# Altium schematic symbol library MOvIT-Detect Lib.SchLib: 38 symbols
Pins are listed as number, name and electrical type; pins without a type are passive.

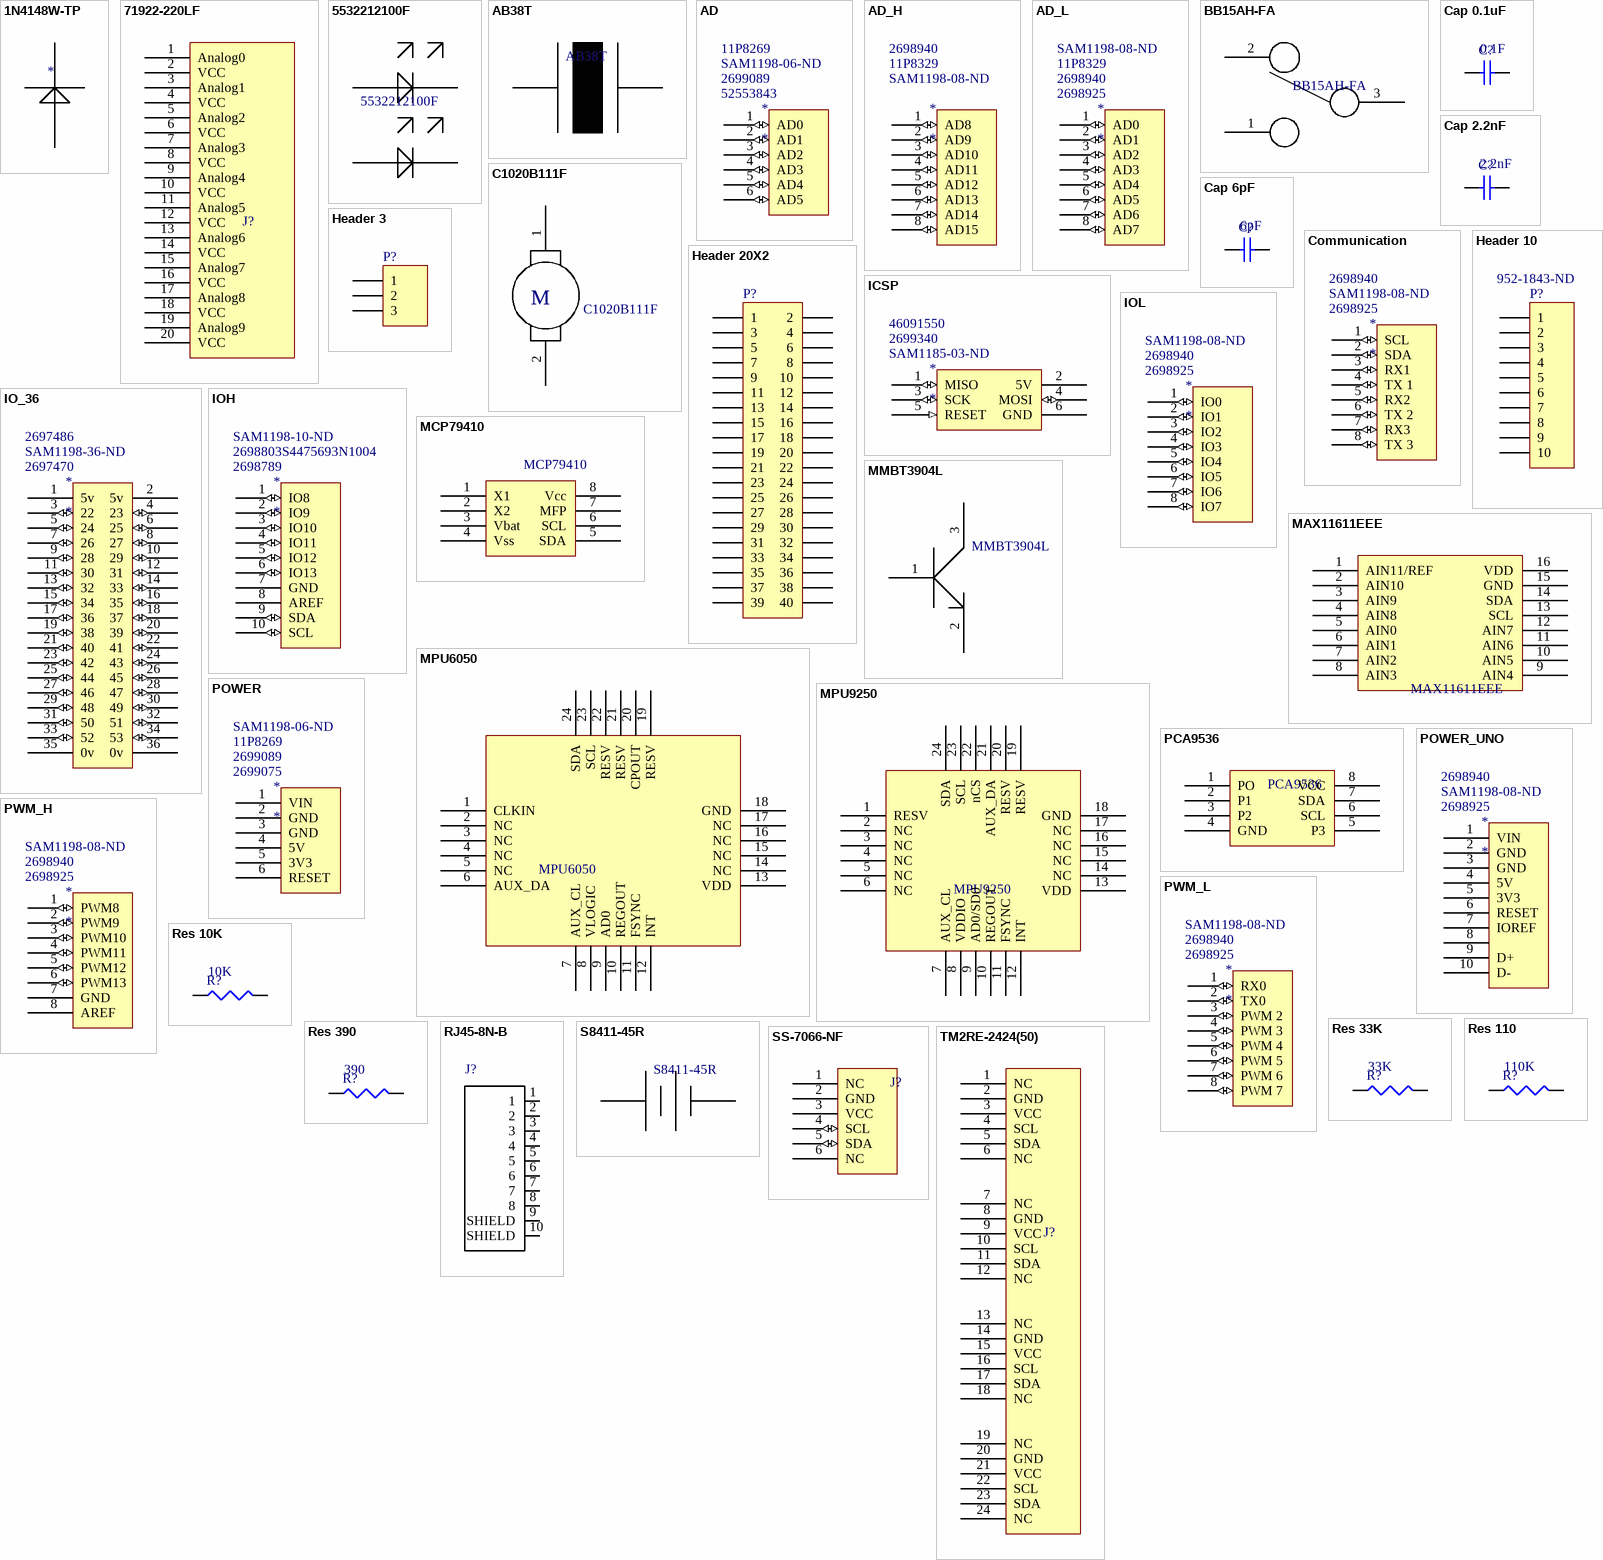
[diagram p0: symbols 1N4148W-TP to TM2RE-2424(50)]

## 1N4148W-TP
designator *  (value not drawn)
Diode; Supplier 1: Digi-Key; Supplier Part Number 1: 1N4148WTPMSCT-ND
footprint 1N4148W (Diode)
pins: 1, 2

## 71922-220LF
designator J?  (value not drawn)
Flat cable connector; Supplier 1: Digi-Key; Supplier Part Number 1: 609-3526-ND
footprint 71922-220LF (Analog connector)
pins: 1 Analog0, 2 VCC, 3 Analog1, 4 VCC, 5 Analog2, 6 VCC, 7 Analog3, 8 VCC, 9 Analog4, 10 VCC, 11 Analog5, 12 VCC, 13 Analog6, 14 VCC, 15 Analog7, 16 VCC, 17 Analog8, 18 VCC, 19 Analog9, 20 VCC

## 5532212100F
designator 5532212100F  (value not drawn)
Double LED RG; Supplier 1: Digi-Key; Supplier Part Number 1: 350-3134-ND
footprint 5532212100F (Double LED)
pins: 1, 2, 3, 4

## AB38T
designator AB38T  (value not drawn)
Oscillator 32.7680KHz; Supplier 1: Digi-Key; Supplier Part Number 1: 535-11937-1-ND
footprint ECX-31B (Crystal at 32.768Hz)
pins: 1, 2

## AD
designator *  Supplier Part Number 1: 52553843  Supplier Part Number 2: 2699089  Supplier Part Number 3: SAM1198-06-ND  Supplier Part Number 4: 11P8269
Supplier 1: Arrow; Supplier 2: Arrow; Supplier 3: Digi-Key; Supplier 4: Newark
footprint Header 6x1 8.5mm (Stackable 6 pin header)
pins: 1 AD0 (io), 2 AD1 (io), 3 AD2 (io), 4 AD3 (io), 5 AD4 (io), 6 AD5 (io)

## AD_H
designator *  Supplier Part Number 1: SAM1198-08-ND  Supplier Part Number 2: 11P8329  Supplier Part Number 3: 2698940
Supplier 1: Digi-Key; Supplier 2: Newark; Supplier 3: Arrow
footprint Header 8x1 8.5mm (Stackable 8 pin header)
pins: 1 AD8 (io), 2 AD9 (io), 3 AD10 (io), 4 AD11 (io), 5 AD12 (io), 6 AD13 (io), 7 AD14 (io), 8 AD15 (io)

## AD_L
designator *  Supplier Part Number 1: 2698925  Supplier Part Number 2: 2698940  Supplier Part Number 3: 11P8329  Supplier Part Number 4: SAM1198-08-ND
Supplier 1: Arrow; Supplier 2: Arrow; Supplier 3: Newark; Supplier 4: Digi-Key
footprint Header 8x1 8.5mm (Stackable 8 pin header)
pins: 1 AD0 (io), 2 AD1 (io), 3 AD2 (io), 4 AD3 (io), 5 AD4 (io), 6 AD5 (io), 7 AD6 (io), 8 AD7 (io)

## BB15AH-FA
designator BB15AH-FA  (value not drawn)
Switch Push button ON SPDT; Supplier 1: Digi-Key; Supplier Part Number 1: 360-3265-ND
footprint BB15AH-FA
pins: 1, 2, 3

## C1020B111F
designator C1020B111F  (value not drawn)
Small DC motor; Supplier 1: Digi-Key; Supplier Part Number 1: 1670-1005-ND
footprint C1020B111F (DC motor)
pins: 1, 2
text: M

## Cap 0.1uF
designator C?  value 0.1F  (hidden comment: Cap 0.1uF)
Capacitor 0.1uF; Published: 8-Jun-2000; LatestRevisionDate: 29-May-2009; LatestRevisionNote: IPC-7351 Footprint Added.; PackageReference: C1206; Publisher: Altium Limited; PackageDescription: Chip Capacitor; Supplier 1: Digi-Key; Supplier Part Number 1: 478-1395-1-ND
simulation model CAP (Semiconductor Capacitor)
signal-integrity model Cap Semi
footprint C0805 (Chip Capacitor, Body 2.0x1.3mm, IPC High Density)
pins: 1, 2

## Cap 2.2nF
designator C?  value 2.2nF  (hidden comment: Cap 2.2nF)
Capacitor 2.2nF; Published: 8-Jun-2000; LatestRevisionDate: 29-May-2009; LatestRevisionNote: IPC-7351 Footprint Added.; PackageReference: C1206; Publisher: Altium Limited; PackageDescription: Chip Capacitor; Supplier 1: Digi-Key; Supplier Part Number 1: 1276-1171-1-ND
simulation model CAP (Semiconductor Capacitor)
signal-integrity model Cap Semi
footprint C0805 (Chip Capacitor, Body 2.0x1.3mm, IPC High Density)
pins: 1, 2

## Cap 6pF
designator C?  value 6pF  (hidden comment: Cap 6pF)
Capacitor 6pF; Published: 8-Jun-2000; LatestRevisionDate: 29-May-2009; LatestRevisionNote: IPC-7351 Footprint Added.; PackageReference: C1206; Publisher: Altium Limited; PackageDescription: Chip Capacitor; Supplier 1: Digi-Key; Supplier Part Number 1: 1276-1767-1-ND
simulation model CAP (Semiconductor Capacitor)
signal-integrity model Cap Semi
footprint C0805 (Chip Capacitor, Body 2.0x1.3mm, IPC High Density)
pins: 1, 2

## Communication
designator *  Supplier Part Number 1: 2698925  Supplier Part Number 2: SAM1198-08-ND  Supplier Part Number 3: 2698940
Supplier 1: Arrow; Supplier 2: Digi-Key; Supplier 3: Arrow
footprint Header 8x1 8.5mm (Stackable 8 pin header)
pins: 1 SCL (io), 2 SDA (io), 3 RX1 (io), 4 TX 1 (io), 5 RX2 (io), 6 TX 2 (io), 7 RX3 (io), 8 TX 3 (io)

## Header 3
designator P?  (value not drawn)
Header, 3-Pin; LatestRevisionDate: 17-Jul-2002; LatestRevisionNote: Re-released for DXP Platform.; Publisher: Altium Limited; Supplier 1: Digi-Key; Supplier Part Number 1: WM11221-ND
footprint HDR1X3 (Connector; Header; 3 Position)
signal-integrity model Connector
pins: 1, 2, 3

## Header 10
designator P?  Supplier Part Number 1: 952-1843-ND
Header, 10-Pin; LatestRevisionDate: 17-Jul-2002; LatestRevisionNote: Re-released for DXP Platform.; Publisher: Altium Limited; Supplier 1: Digi-Key
footprint HDR1X10 (Connector; Header; 10 Position)
signal-integrity model Connector
pins: 1, 2, 3, 4, 5, 6, 7, 8, 9, 10

## Header 20X2
designator P?  (value not drawn)
Header, 20-Pin, Dual row; LatestRevisionDate: 17-Jul-2002; LatestRevisionNote: Re-released for DXP Platform.; Publisher: Altium Limited; Supplier 1: Digi-Key; Supplier Part Number 1: 609-3766-ND
footprint HDR2X20 (Connector; Header; 20x2 Position)
signal-integrity model Connector
footprint HDR2X20 (Connector; Header; 20x2 Position)
pins: 1, 2, 3, 4, 5, 6, 7, 8, 9, 10, 11, 12, 13, 14, 15, 16, 17, 18, 19, 20, 21, 22, 23, 24, 25, 26, 27, 28, 29, 30, 31, 32, 33, 34, 35, 36, 37, 38, 39, 40

## ICSP
designator *  Supplier Part Number 1: SAM1185-03-ND  Supplier Part Number 2: 2699340  Supplier Part Number 3: 46091550
Supplier 1: Digi-Key; Supplier 2: Arrow; Supplier 3: Arrow
footprint ICSP
pins: 1 MISO (io), 2 5V (power), 3 SCK (io), 4 MOSI (io), 5 RESET (in), 6 GND (power)

## IO_36
designator *  Supplier Part Number 1: 2697470  Supplier Part Number 2: SAM1198-36-ND  Supplier Part Number 3: 2697486
Supplier 1: Arrow; Supplier 2: Digi-Key; Supplier 3: Arrow
footprint HEADER 36X 8MM (Stackable 10 pin header)
pins: 1 5v (power), 2 5v (power), 3 22 (io) "Digital 22", 4 23 (io) "Digital 23", 5 24 (io) "Digital 24", 6 25 (io) "Digital 25", 7 26 (io) "Digital 26", 8 27 (io) "Digital 27", 9 28 (io) "Digital 28", 10 29 (io) "Digital 29", 11 30 (io) "Digital 30", 12 31 (io) "Digital 31", 13 32 (io) "Digital 32", 14 33 (io) "Digital 33", 15 34 (io) "Digital 34", 16 35 (io) "Digital 35", 17 36 (io) "Digital 36", 18 37 (io) "Digital 37", 19 38 (io) "Digital 38", 20 39 (io) "Digital 39", 21 40 (io) "Digital 40", 22 41 (io) "Digital 41", 23 42 (io) "Digital 42", 24 43 (io) "Digital 43", 25 44 (io) "Digital 44", 26 45 (io) "Digital 45", 27 46 (io) "Digital 46", 28 47 (io) "Digital 47", 29 48 (io) "Digital 48", 30 49 (io) "Digital 49", 31 50 (io) "Digital 50", 32 51 (io) "Digital 51", 33 52 (io) "Digital 52", 34 53 (io) "Digital 53", 35 0v (power), 36 0v (power)

## IOH
designator *  Supplier Part Number 1: 2698789  Supplier Part Number 2: 2698803S4475693N1004  Supplier Part Number 3: SAM1198-10-ND
Supplier 1: Arrow; Supplier 2: Arrow; Supplier 3: Digi-Key
footprint Header 10x1 8.5mm (Stackable 10 pin header)
pins: 1 IO8 (io), 2 IO9 (io), 3 IO10 (io), 4 IO11 (io), 5 IO12 (io), 6 IO13 (io), 7 GND (power), 8 AREF, 9 SDA (io), 10 SCL (io)

## IOL
designator *  Supplier Part Number 1: 2698925  Supplier Part Number 2: 2698940  Supplier Part Number 3: SAM1198-08-ND
Supplier 1: Arrow; Supplier 2: Arrow; Supplier 3: Digi-Key
footprint Header 8x1 8.5mm (Stackable 8 pin header)
pins: 1 IO0 (io), 2 IO1 (io), 3 IO2 (io), 4 IO3 (io), 5 IO4 (io), 6 IO5 (io), 7 IO6 (io), 8 IO7 (io)

## MAX11611EEE
designator MAX11611EEE  (value not drawn)
ADC with I2C interface; Supplier 1: Digi-Key; Supplier Part Number 1: MAX11611EEE+-ND
footprint MAX11611EEE+ (ADC with I2C interface)
pins: 1 AIN11/REF, 2 AIN10, 3 AIN9, 4 AIN8, 5 AIN0, 6 AIN1, 7 AIN2, 8 AIN3, 9 AIN4, 10 AIN5, 11 AIN6, 12 AIN7, 13 SCL, 14 SDA, 15 GND, 16 VDD

## MCP79410
designator MCP79410  (value not drawn)
RTC; Supplier 1: Digi-Key; Supplier Part Number 1: MCP79410T-I/SNCT-ND
footprint MCP79410 (RTC)
pins: 1 X1, 2 X2, 3 Vbat, 4 Vss, 5 SDA, 6 SCL, 7 MFP, 8 Vcc

## MMBT3904L
designator MMBT3904L  (value not drawn)
BJT NPN transistor; Supplier 1: Digi-Key; Supplier Part Number 1: MMBT3904LT3GOSCT-ND
footprint MMBT3904LT3G (NPN BJT transistor)
pins: 1, 2, 3

## MPU6050
designator MPU6050  (value not drawn)
3 Axis IMU; Supplier 1: Digi-Key; Supplier Part Number 1: 1428-1007-1-ND
footprint MPU6050 (IMU)
pins: 1 CLKIN, 2 NC, 3 NC, 4 NC, 5 NC, 6 AUX_DA, 7 AUX_CL, 8 VLOGIC, 9 AD0, 10 REGOUT, 11 FSYNC, 12 INT, 13 VDD, 14 NC, 15 NC, 16 NC, 17 NC, 18 GND, 19 RESV, 20 CPOUT, 21 RESV, 22 RESV, 23 SCL, 24 SDA

## MPU9250
designator MPU9250  (value not drawn)
IMU
footprint MPU9250 (IMU)
pins: 1 RESV, 2 NC, 3 NC, 4 NC, 5 NC, 6 NC, 7 AUX_CL, 8 VDDIO, 9 AD0/SD0, 10 REGOUT, 11 FSYNC, 12 INT, 13 VDD, 14 NC, 15 NC, 16 NC, 17 NC, 18 GND, 19 RESV, 20 RESV, 21 AUX_DA, 22 nCS, 23 SCL, 24 SDA

## PCA9536
designator PCA9536  (value not drawn)
IO Expander; Supplier 1: Digi-Key; Supplier Part Number 1: 296-21765-1-ND
footprint PCA9536 (IO expander)
pins: 1 PO, 2 P1, 3 P2, 4 GND, 5 P3, 6 SCL, 7 SDA, 8 VCC

## POWER
designator *  Supplier Part Number 1: 2699075  Supplier Part Number 2: 2699089  Supplier Part Number 3: 11P8269  Supplier Part Number 4: SAM1198-06-ND
Supplier 1: Arrow; Supplier 2: Arrow; Supplier 3: Newark; Supplier 4: Digi-Key
footprint Header 6x1 8.5mm (Stackable 6 pin header)
pins: 1 VIN (power), 2 GND (power), 3 GND (power), 4 5V (power), 5 3V3 (power), 6 RESET

## POWER_UNO
designator *  Supplier Part Number 1: 2698925  Supplier Part Number 2: SAM1198-08-ND  Supplier Part Number 3: 2698940
Supplier 1: Arrow; Supplier 2: Digi-Key; Supplier 3: Arrow
footprint Header 10x1 8.5mm (Stackable 10 pin header)
pins: 1 VIN (power), 2 GND (power), 3 GND (power), 4 5V (power), 5 3V3 (power), 6 RESET, 7 IOREF (power), 8, 9 D+, 10 D-

## PWM_H
designator *  Supplier Part Number 1: 2698925  Supplier Part Number 2: 2698940  Supplier Part Number 3: SAM1198-08-ND
Supplier 1: Arrow; Supplier 2: Arrow; Supplier 3: Digi-Key
footprint Header 8x1 8.5mm (Stackable 8 pin header)
pins: 1 PWM8 (io) "PWM 8", 2 PWM9 (io) "PWM 9", 3 PWM10 (io) "PWM 10", 4 PWM11 (io) "PWM 11", 5 PWM12 (io) "PWM 12", 6 PWM13 (io) "PWM 13", 7 GND (power), 8 AREF

## PWM_L
designator *  Supplier Part Number 1: 2698925  Supplier Part Number 2: 2698940  Supplier Part Number 3: SAM1198-08-ND
Supplier 1: Arrow; Supplier 2: Arrow; Supplier 3: Digi-Key
footprint Header 8x1 8.5mm (Stackable 8 pin header)
pins: 1 RX0 (io) "PWM 0 & RX0", 2 TX0 (io) "PWM 1 & TX0", 3 PWM 2 (io), 4 PWM 3 (io), 5 PWM 4 (io), 6 PWM 5 (io), 7 PWM 6 (io), 8 PWM 7 (io)

## Res 10K
designator R?  value 10K  (hidden comment: Res 10K)
Resistor 10K; Published: 8-Jun-2000; LatestRevisionDate: 29-May-2009; LatestRevisionNote: IPC-7351 Footprint Added.; PackageReference: J1-0603; Publisher: Altium Limited; PackageDescription: Chip Resistor; Supplier 1: Digi-Key; Supplier Part Number 1: 311-10.0KCRCT-ND
simulation model RESISTOR (Resistor)
signal-integrity model Res
footprint 6-0805_N (Chip Resistor, Body 2.0x1.2mm, IPC Medium Density)
pins: 1, 2

## Res 33K
designator R?  value 33K  (hidden comment: Res 33K)
Resistor 33K; Published: 8-Jun-2000; LatestRevisionDate: 29-May-2009; LatestRevisionNote: IPC-7351 Footprint Added.; PackageReference: J1-0603; Publisher: Altium Limited; PackageDescription: Chip Resistor; Supplier 1: Digi-Key; Supplier Part Number 1: 311-33.0KHRCT-ND
simulation model RESISTOR (Resistor)
signal-integrity model Res
footprint 6-0805_N (Chip Resistor, Body 2.0x1.2mm, IPC Medium Density)
pins: 1, 2

## Res 110
designator R?  value 110K  (hidden comment: Res 110)
Resistor 110; Published: 8-Jun-2000; LatestRevisionDate: 29-May-2009; LatestRevisionNote: IPC-7351 Footprint Added.; PackageReference: J1-0603; Publisher: Altium Limited; PackageDescription: Chip Resistor; Supplier 1: Digi-Key; Supplier Part Number 1: 311-110CRCT-ND
simulation model RESISTOR (Resistor)
signal-integrity model Res
footprint 6-0805_N (Chip Resistor, Body 2.0x1.2mm, IPC Medium Density)
pins: 1, 2

## Res 390
designator R?  value 390  (hidden comment: Res 390)
Resistor 390; Published: 8-Jun-2000; LatestRevisionDate: 29-May-2009; LatestRevisionNote: IPC-7351 Footprint Added.; PackageReference: J1-0603; Publisher: Altium Limited; PackageDescription: Chip Resistor; Supplier 1: Digi-Key; Supplier Part Number 1: 311-390GRCT-ND
simulation model RESISTOR (Resistor)
signal-integrity model Res
footprint 6-0805_N (Chip Resistor, Body 2.0x1.2mm, IPC Medium Density)
pins: 1, 2

## RJ45-8N-B
designator J?  (value not drawn)
Corcom; Filter; Signal Line; Modular; 8 Contacts; 1 Port Through Hole; MF: TE Connectivity; SnapEDA_Link: https://www.snapeda.com/parts/RJ45-8N-B/TE%2520Connectivity%2520Corcom%2520Filters/view-part/?ref=snap; Price: 5.65 USD; Package: None; MP: RJ45-8N-B; Availability: Good; Value: *; Supplier 1: Digi-Key; Supplier Part Number 1: CCM1500-ND
footprint TE_RJ45-8N-B
pins: 1, 2, 3, 4, 5, 6, 7, 8, 9 SHIELD, 10 SHIELD

## S8411-45R
designator S8411-45R  (value not drawn)
12mm Battery holder; Supplier 1: Digi-Key; Supplier Part Number 1: 952-1745-1-ND
footprint S8411-45R (Battery holder 12mm coin cell)
pins: 1, 2

## SS-7066-NF
designator J?  (value not drawn)
RJ12 Connector; Supplier 1: Digi-Key; Supplier Part Number 1: 380-1043-ND
footprint SS-7066-NF
pins: 1 NC, 2 GND, 3 VCC, 4 SCL (io), 5 SDA (io), 6 NC

## TM2RE-2424(50)
designator J?  (value not drawn)
Connector MOD JACK 4pos; Supplier 1: Digi-Key; Supplier Part Number 1: H11267-ND
footprint TM2RE-2424
pins: 1 NC, 2 GND, 3 VCC, 4 SCL, 5 SDA, 6 NC, 7 NC, 8 GND, 9 VCC, 10 SCL, 11 SDA, 12 NC, 13 NC, 14 GND, 15 VCC, 16 SCL, 17 SDA, 18 NC, 19 NC, 20 GND, 21 VCC, 22 SCL, 23 SDA, 24 NC